# Altium schematic symbol library MPV5.012DV1.Schlib: 1 symbol
Pins are listed as number, name and electrical type; pins without a type are passive.

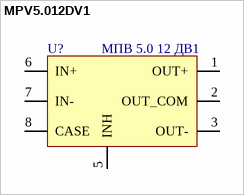
[diagram p0: symbol MPV5.012DV1]

## MPV5.012DV1
designator U?, comment МПВ 5.0 12 ДВ1
Назначение: ВИП; Наименование: МПВ 5.0 12 ДВ1
footprint SMSA
pins: 1 OUT+, 2 OUT_COM, 3 OUT-, 5 INH, 6 IN+, 7 IN-, 8 CASE